# Altium schematic symbol library Diode_Bridge.SchLib: 1 symbol
Pins are listed as number, name and electrical type; pins without a type are passive.

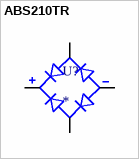
[diagram p0: symbol ABS210TR]

## ABS210TR
designator U?
Bridge Rectifier Single Phase Standard 1 kV Surface Mount ABS; MP: ABS210TR; MF: SMC Diode Solutions; SnapEDA_Link: https://www.snapeda.com/parts/ABS210TR/SMC+Diode+Solutions/view-part/?ref=snap; Purchase-URL: https://pricing.snapeda.com/search/part/ABS210TR/?ref=eda; Package: SMD-4 SMC Diode Solutions; Value: *; Check_prices: https://www.snapeda.com/parts/ABS210TR/SMC+Diode+Solutions/view-part/?ref=eda
footprint DIOB_ABS210TR
pins: AC1, AC2, NEG, POS